# Altium schematic symbol library BSS84-7-F.Schlib: 1 symbol
Pins are listed as number, name and electrical type; pins without a type are passive.

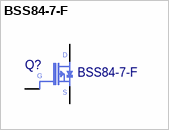
[diagram p0: symbol BSS84-7-F]

## BSS84-7-F
designator Q?
pins: 1 G, 2 S, 3 D